# Altium schematic symbol library Schematics Diagrams.SchLib: 323 symbols (part 3 of 8)
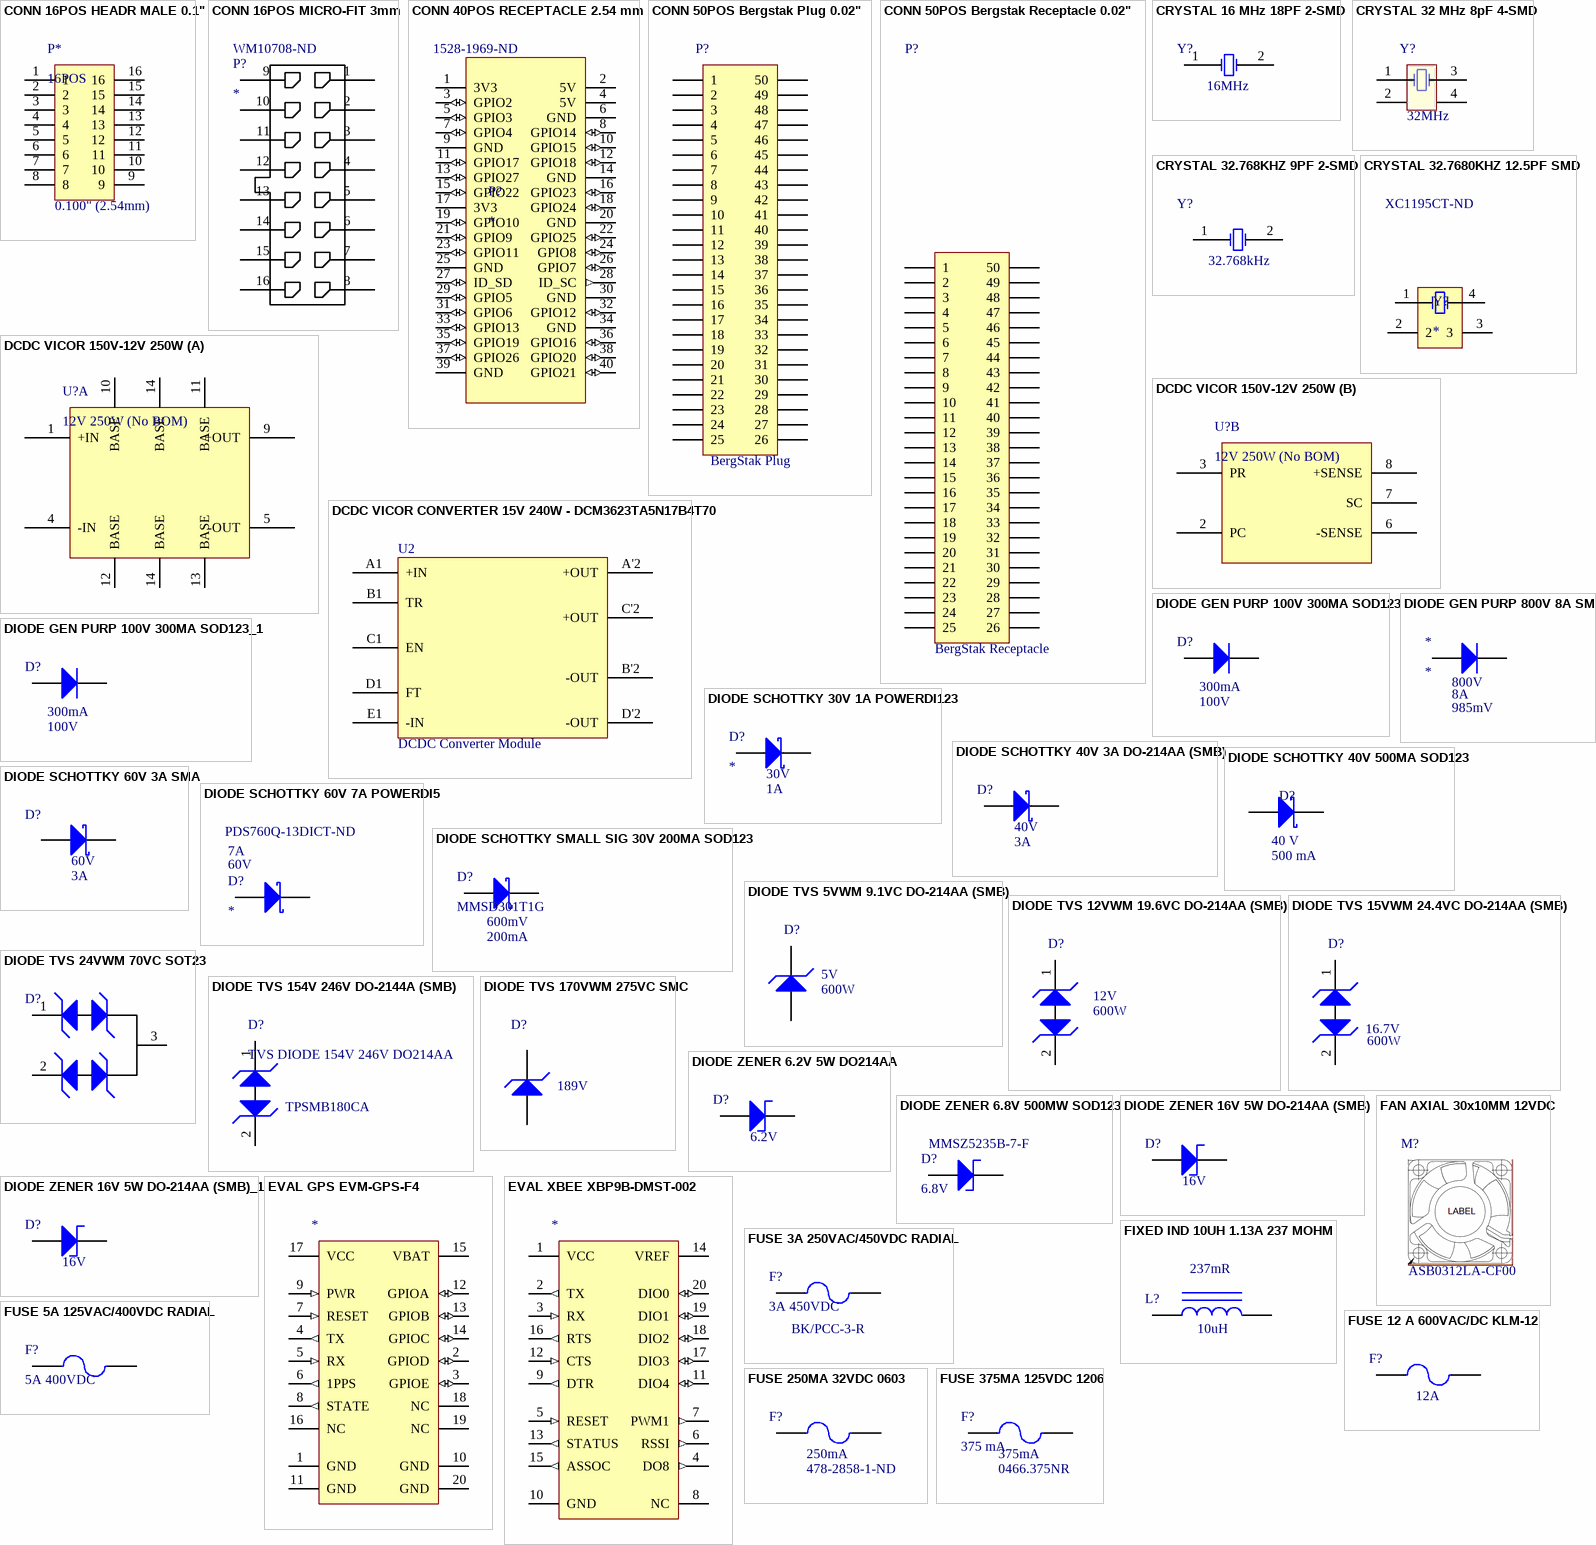
[diagram p12: symbols CONN 16POS HEADR MALE 0.1" to FUSE 375MA 125VDC 1206]

## CONN 16POS MICRO-FIT 3mm
designator P?  Supplier Part Number 1: WM10708-ND
Connector Header Through Hole 16 position 0.118"(3.00mm); Manufacturer: Molex; Manufacturer Part Number: 0430451627; Contact Resistance: 10mR; Number of Positions: 16; Number of Ports: 1; Connector Type: Male Pin; Pitch: 3mm; Row Spacing: 0.118inch; Supplier 1: Digi-Key; RoHS: Yes; Stock 1: 4654; Pricing 1: 1 = 3.26000, 10 = 3.12900, 25 = 2.86800, 50 = 2.73780, 100 = 2.60740, 250 = 2.28148, 792 = 2.02073, 1584 = 1.82518, 3168 = 1.75999 (USD); Mount: Through Hole; Color: Black; Contact Material: Brass; Contact Plating: Tin; Number of Terminals: 16; Housing Color: Black; Housing Material: Polymer; Min Operating Temperature: -40°C; Max Operating Temperature: 105°C; Package Quantity: 792; Number of Rows: 2; Fastening Type: Ramp; Packaging: Tray; Termination: Solder; Number of Contacts: 16; Orientation: Straight; Length: 28.15mm; Depth: 8.77mm; ComponentLink1URL: http://www.molex.com/pdm_docs/sd/430451627_sd.pdf; ComponentLink1Description: http://www.molex.com/pdm_docs/sd/430451627_sd.pdf; ComponentLink2URL: http://www.molex.com/webdocs/datasheets/pdf/en-us/0430451627_PCB_HEADERS.pdf; ComponentLink2Description: http://www.molex.com/webdocs/datasheets/pdf/en-us/0430451627_PCB_HEADERS.pdf
footprint CONN, 16POS MICRO-FIT 3MM
pins: 1, 2, 3, 4, 5, 6, 7, 8, 9, 10, 11, 12, 13, 14, 15, 16

## CONN 40POS RECEPTACLE 2.54 mm
designator P?  Supplier Part Number 1: 1528-1969-ND
GPIO HEADER FOR RASPBERRYPI A+/B; Manufacturer: Adafruit Industries; Manufacturer Part Number: 1992; Supplier 1: Digi-Key; Stock 1: 175; Pricing 1: 1=2.95 (USD); ComponentLink1Description: gpio header raspberry pi; ComponentLink1URL: https://www.digikey.ca/product-detail/en/adafruit-industries-llc/1992/1528-1969-ND/6827092
footprint CONN 40POS RECEPTACLE 2.54 MM (gpio header for raspberry pi)
pins: 1 3V3 (power), 2 5V (power), 3 GPIO2 (io), 4 5V (power), 5 GPIO3 (io), 6 GND (power), 7 GPIO4 (io), 8 GPIO14 (io), 9 GND (power), 10 GPIO15 (io), 11 GPIO17 (io), 12 GPIO18 (io), 13 GPIO27 (io), 14 GND (power), 15 GPIO22 (io), 16 GPIO23 (io), 17 3V3 (power), 18 GPIO24 (io), 19 GPIO10 (io), 20 GND (power), 21 GPIO9 (io), 22 GPIO25 (io), 23 GPIO11 (io), 24 GPIO8 (io), 25 GND (power), 26 GPIO7 (io), 27 ID_SD (io), 28 ID_SC (out), 29 GPIO5 (io), 30 GND (power), 31 GPIO6 (io), 32 GPIO12 (io), 33 GPIO13 (io), 34 GND (power), 35 GPIO19 (io), 36 GPIO16 (io), 37 GPIO26 (io), 38 GPIO20 (io), 39 GND (power), 40 GPIO21 (io)

## CONN 50POS Bergstak Plug 0.02"
designator P?  Series: BergStak Plug
50 Position Connector Plug, Outer Shroud Contacts Surface Mount Gold; Manufacturer 1: Amphenol FCI; Manufacturer Part Number 1: 10132797-055100LF; Number of Positions: 50; Mated Stacking Heights: 5mm; Pitch: 0.020" (0.50mm); Supplier 1: Digi-Key; Supplier Part Number 1: 609-5226-1-ND; Packaging: Cut Tape (CT); Part Status: Active; Connector Type: Plug, Outer Shroud Contacts; Number of Rows: 2; Mounting Type: Surface Mount; Contact Finish: Gold; Contact Finish Thickness: 1µin (0.025µm); Height Above Board: 0.169" (4.30mm); ComponentLink1URL: http://portal.fciconnect.com/Comergent//fci/drawing/10132797.pdf; ComponentLink1Description: http://portal.fciconnect.com/Comergent//fci/drawing/10132797.pdf
footprint CONN, Bergstak 50 Pos Plug (Bergstak 50 Position Plug)
pins: 1, 2, 3, 4, 5, 6, 7, 8, 9, 10, 11, 12, 13, 14, 15, 16, 17, 18, 19, 20, 21, 22, 23, 24, 25, 26, 27, 28, 29, 30, 31, 32, 33, 34, 35, 36, 37, 38, 39, 40, 41, 42, 43, 44, 45, 46, 47, 48, 49, 50

## CONN 50POS Bergstak Receptacle 0.02"
designator P?  Series: BergStak Receptacle
50 Position Connector Receptacle, Center Strip Contacts Surface Mount Gold; Manufacturer 1: Amphenol FCI; Manufacturer Part Number 1: 10132798-052100LF; Number of Positions: 50; Mated Stacking Heights: 5mm, 5.5mm, 6mm; Pitch: 0.020" (0.50mm); Supplier 1: Digi-Key; Supplier Part Number 1: 609-5227-1-ND; Packaging: Cut Tape (CT); Part Status: Active; Connector Type: Receptacle, Center Strip Contacts; Number of Rows: 2; Mounting Type: Surface Mount; Contact Finish: Gold; Contact Finish Thickness: 1µin (0.025µm); Height Above Board: 0.106" (2.70mm); ComponentLink1URL: http://portal.fciconnect.com/Comergent//fci/drawing/10132798.pdf; ComponentLink1Description: http://portal.fciconnect.com/Comergent//fci/drawing/10132798.pdf
footprint CONN, Bergstak 50 Pos Receptacle (Bergstak 50 Position Receptacle)
pins: 1, 2, 3, 4, 5, 6, 7, 8, 9, 10, 11, 12, 13, 14, 15, 16, 17, 18, 19, 20, 21, 22, 23, 24, 25, 26, 27, 28, 29, 30, 31, 32, 33, 34, 35, 36, 37, 38, 39, 40, 41, 42, 43, 44, 45, 46, 47, 48, 49, 50

## CRYSTAL 16 MHz 18PF 2-SMD
designator Y?  Frequency: 16MHz  (hidden comment: *)
16MHz ±20ppm Crystal 18pF 40 Ohms 2-SMD, No Lead; Manufacturer: Abracon LLC; Manufacturer Part Number: ABM3-16.000MHZ-D2Y-T; Frequency Stability: ±30ppm; Operating Mode: Fundamental; Supplier 1: Digi-Key; RoHS: RoHS Compliant; Category: Crystals, Oscillators, Resonators; Stock 1: 27142; Pricing 1: 1=1.02, 10=0.858, 50=0.7712, 100=0.6855, 500=0.6512 (CAD); Packaging: Cut Tape (CT); Part Status: Active; Type: MHz Crystal; Frequency Tolerance: ±20ppm; Load Capacitance: 18pF; Operating Temperature: -40°C ~ 85°C; Ratings: -; Mounting Type: Surface Mount; Package / Case: 2-SMD, No Lead; Size / Dimension: 0.197" L x 0.126" W (5.00mm x 3.20mm); Height - Seated (Max): 0.051" (1.30mm); ComponentLink1URL: https://abracon.com/Resonators/abm3.pdf; ComponentLink1Description: https://abracon.com/Resonators/abm3.pdf; Supplier Part Number 1: 535-10638-1-ND
footprint ABM3 CRYSTAL
pins: 1, 2

## CRYSTAL 32 MHz 8pF 4-SMD
designator Y?  Frequency: 32MHz
32MHz ±15ppm Crystal 8pF 50 Ohm -40°C ~ 85°C AEC-Q200 Surface Mount 4-SMD, No Lead; Manufacturer 1: AVX Corp/Kyocera Corp; Manufacturer Part Number 1: CX2520DB32000D0GPSC1; Frequency Stability: ±50ppm; ESR (Equivalent Series Resistance): 50 Ohm; Operating Mode: Fundamental; Supplier 1: Digi-Key; Supplier Part Number 1: 1253-1730-1-ND; Packaging: Cut Tape (CT); Part Status: Active; Type: MHz Crystal; Frequency Tolerance: ±15ppm; Operating Temperature: -40°C ~ 85°C; Ratings: AEC-Q200; Mounting Type: Surface Mount; Package / Case: 4-SMD, No Lead; Size / Dimension: 0.098" L x 0.079" W (2.50mm x 2.00mm); Height - Seated (Max): 0.022" (0.55mm); ComponentLink1URL: http://media.digikey.com/pdf/Data%20Sheets/AVX%20PDFs/CX2520DB_USY1M-H1-16428-00_Spec.pdf; ComponentLink1Description: http://media.digikey.com/pdf/Data%20Sheets/AVX%20PDFs/CX2520DB_USY1M-H1-16428-00_Spec.pdf; Load Capacitance: 8pF
footprint CX2520DB CRYSTAL
pins: 1 OSC1, 2, 3 OSC2, 4 3

## CRYSTAL 32.768KHZ 9PF 2-SMD
designator Y?  Frequency: 32.768kHz
32.768kHz ±20ppm Crystal 6pF 50 kOhm -40°C ~ 85°C Surface Mount 4-SOJ, 5.50mm pitch; Manufacturer 1: Abracon LLC; Manufacturer Part Number 1: ABS07AIG-32.768KHZ-9-1-T; Frequency Tolerance: ±10ppm; Load Capacitance: 9pF; ESR (Equivalent Series Resistance): 70 kOhm; Operating Mode: Fundamental; Supplier 1: Digi-Key; Supplier Part Number 1: 535-13353-1-ND; Packaging: Cut Tape (CT); Part Status: Active; Type: kHz Crystal (Tuning Fork); Frequency Stability: -; Operating Temperature: -40°C ~ 125°C; Ratings: AEC-Q200; Mounting Type: Surface Mount; Package / Case: 2-SMD, No Lead; Size / Dimension: 0.126" L x 0.059" W (3.20mm x 1.50mm); Height - Seated (Max): 0.035" (0.90mm); ComponentLink1URL: http://www.abracon.com/AIGcrystals/ABS07AIG.pdf; ComponentLink1Description: http://www.abracon.com/AIGcrystals/ABS07AIG.pdf
footprint ABS07AIG CRYSTAL
pins: 1, 2

## CRYSTAL 32.7680KHZ 12.5PF SMD
designator Y?  Supplier Part Number 1: XC1195CT-ND
32.768kHz ±20ppm Crystal 12.5pF 50 kOhms 4-SOJ, 5.50mm pitch; Manufacturer: ECS International; Manufacturer Part Number: ECS-.327-12.5-17X-TR; ESR (Equivalent Series Resistance): 50kR; Supplier 1: Digi-Key; Stock 1: 67622; Pricing 1: 1=0.56, 10=0.468, 50=0.4208, 100=0.374, 500=0.3553, 1000=0.2992 (USD); Mount: Surface Mount; Min Operating Temperature: -40°C; Max Operating Temperature: 85°C; Package Quantity: 1; Frequency: 32.768kHz; Frequency Tolerance: 20ppm; Load Capacitance: 12.5pF; Packaging: Tape and Reel; Tolerance: 20ppm; Termination: SMD/SMT; Length: 0.315inch; Height: 0.098inch; Width: 0.15inch; Lead Free: Lead Free; ComponentLink1URL: https://datasheet.ciiva.com/852/ecx-306x-852775.pdf; ComponentLink1Description: https://datasheet.ciiva.com/852/ecx-306x-852775.pdf; ComponentLink2URL: https://datasheet.ciiva.com/852/ecx-306x-852776.pdf; ComponentLink2Description: https://datasheet.ciiva.com/852/ecx-306x-852776.pdf; ComponentLink3URL: https://datasheet.ciiva.com/852/ecx-306x-852777.pdf; ComponentLink3Description: https://datasheet.ciiva.com/852/ecx-306x-852777.pdf
footprint 4-SOJ
pins: 1, 2, 3, 4

## DCDC VICOR 150V-12V 250W
designator U?, comment 12V 250W (No BOM)  (no BOM)
Isolated Module DC DC Converter 1 Output 12V 20.83A 100V - 200V Input; Manufacturer: Vicor Corporation; Manufacturer Part Number: V150B12C250BL; Number of Outputs: 1; Voltage - Isolation: 3kV (3000V); Efficiency: 88.1%; Supplier 1: Digi-Key; RoHS: RoHS non-compliant; Category: Power Supplies - Board Mount; Stock 1: 0; Pricing 1: 1=252.65 (CAD); Packaging: Bulk; Part Status: Active; Type: Isolated Module; Voltage - Input (Min): 100V; Voltage - Input (Max): 200V; Voltage - Output 1: 12V; Voltage - Output 2: -; Voltage - Output 3: -; Current - Output (Max): 20.83A; Applications: ITE (Commercial); Features: OVP, UVLO; Operating Temperature: -20°C ~ 100°C; Mounting Type: Through Hole; Package / Case: 9-DIP Module; Size / Dimension: 2.28" L x 2.20" W x 0.50" H (57.9mm x 55.9mm x 12.7mm); ComponentLink1URL: http://cdn.vicorpower.com/documents/datasheets/ds_150vin-mini-family.pdf; ComponentLink1Description: http://cdn.vicorpower.com/documents/datasheets/ds_150vin-mini-family.pdf; Supplier Part Number 1: 1102-1234-ND
footprint DCDC VICOR 150V-12V 250W
part A pins: 1 +IN, 4 -IN, 5 -OUT, 9 +OUT, 10 BASE, 11 BASE, 12 BASE, 13 BASE, 14 BASE, 14 BASE
part B pins: 2 PC, 3 PR, 6 -SENSE, 7 SC, 8 +SENSE

## DCDC VICOR CONVERTER 15V 240W - DCM3623TA5N17B4T70
designator U2  Type: DCDC Converter Module  (hidden comment: DCDC VICOR CONVERTER 15V 240W - DCM3623TA5N17B4T70)
DC DC CONVERTER 15V 240W; Manufacturer 1: Vicor Corporation; Number of Outputs: 1; Voltage - Input (Min): 154V; Voltage - Input (Max): 43V; Current - Output (Max): 16A; Efficiency: 92.1%; Supplier 1: Digi-Key; Supplier Part Number 1: 1470-2950-1-ND; Packaging: Cut Tape (CT); Part Status: Active; Voltage - Output 1: 15V; Voltage - Output 2: -; Voltage - Output 3: -; Operating Temperature: -40°C ~ 105°C; Mounting Type: Surface Mount; Package / Case: 9-DIP Module; Size / Dimension: 1.52" L x 0.90" W x 0.28" H (38.72mm x 22.8mm x 7.2mm); ComponentLink1URL: http://www.vicorpower.com/documents/datasheets/DCM3623xA5N17B4y7z_ds.pdf; ComponentLink1Description: http://www.vicorpower.com/documents/datasheets/DCM3623xA5N17B4y7z_ds.pdf; Power: 240W; Manufacturer Part Number 1: DCM3623TA5N17B4T70
footprint IC, DCDC converter DCM3623TA5N17B4T70
pins: A1 +IN, A'2 +OUT, B1 TR, B'2 -OUT, C1 EN, C'2 +OUT, D1 FT, D'2 -OUT, E1 -IN

## DIODE GEN PURP 100V 300MA SOD123
designator D?  Max Repetitive Reverse Voltage (Vrrm): 100V  Forward Current: 300mA  (hidden comment: *)
Diode Standard 100V 300mA (DC) Surface Mount SOD-123; Manufacturer: Diodes Zetex; Manufacturer Part Number: 1N4148WQ-7-F; Max Surge Current: 2A; Forward Voltage: 1.25V; Element Configuration: Single; Recovery Time: 4ns; Peak Reverse Current: 50uA; Max Power Dissipation: 400mW; Supplier 1: Digi-Key; Stock 1: 229; Pricing 1: 1=0.22, 10=0.196, 100=0.107, 500=0.0658, 1000=0.0449 (USD); Mount: Surface Mount; Case/Package: SOD-123-2; Number of Pins: 2; Weight: 0.000353oz; Contact Plating: Tin,Matte; Min Operating Temperature: -65°C; Max Operating Temperature: 150°C; Packaging: Tape and Reel; Peak Non-Repetitive Surge Current: 2A; Package Quantity: 3000; Reverse Recovery Time: 4ns; Lead Free: Lead Free; ComponentLink1URL: http://components.arrow.com/part/dataview/0323_07206809; ComponentLink1Description: http://components.arrow.com/part/dataview/0323_07206809; ComponentLink2URL: http://www.diodes.com/datasheets/ds30086.pdf; ComponentLink2Description: http://www.diodes.com/datasheets/ds30086.pdf; ComponentLink3URL: http://www.mouser.com/ds/2/115/ds30086-318161.pdf; ComponentLink3Description: http://www.mouser.com/ds/2/115/ds30086-318161.pdf; Supplier Part Number 1: 1N4148WQ-7-FDICT-ND
footprint DIODE GEN PURP 100V 300MA SOD123 (Diode Standard 100V 300mA (DC) Surface Mount SOD-123)
pins: 1 A, 2 K

## DIODE GEN PURP 100V 300MA SOD123_1
designator D?  Max Repetitive Reverse Voltage (Vrrm): 100V  Forward Current: 300mA  (hidden comment: *)
Diode Standard 100V 300mA (DC) Surface Mount SOD-123; Manufacturer: Diodes Zetex; Manufacturer Part Number: 1N4148WQ-7-F; Max Surge Current: 2A; Forward Voltage: 1.25V; Element Configuration: Single; Recovery Time: 4ns; Peak Reverse Current: 50uA; Max Power Dissipation: 400mW; Supplier 1: Digi-Key; Stock 1: 229; Pricing 1: 1=0.22, 10=0.196, 100=0.107, 500=0.0658, 1000=0.0449 (USD); Mount: Surface Mount; Case/Package: SOD-123-2; Number of Pins: 2; Weight: 0.000353oz; Contact Plating: Tin,Matte; Min Operating Temperature: -65°C; Max Operating Temperature: 150°C; Packaging: Tape and Reel; Peak Non-Repetitive Surge Current: 2A; Package Quantity: 3000; Reverse Recovery Time: 4ns; Lead Free: Lead Free; ComponentLink1URL: http://components.arrow.com/part/dataview/0323_07206809; ComponentLink1Description: http://components.arrow.com/part/dataview/0323_07206809; ComponentLink2URL: http://www.diodes.com/datasheets/ds30086.pdf; ComponentLink2Description: http://www.diodes.com/datasheets/ds30086.pdf; ComponentLink3URL: http://www.mouser.com/ds/2/115/ds30086-318161.pdf; ComponentLink3Description: http://www.mouser.com/ds/2/115/ds30086-318161.pdf; Supplier Part Number 1: 1N4148WQ-7-FDICT-ND
footprint DIODE GEN PURP 100V 300MA SOD123 (Diode Standard 100V 300mA (DC) Surface Mount SOD-123)
pins: 1 A, 2 K

## DIODE GEN PURP 800V 8A SMC
designator *  Forward Voltage: 985mV  Max Reverse Voltage (DC): 800V  Forward Current: 8A
Manufacturer: Diodes; Manufacturer Part Number: S8KC-13; Peak Reverse Current: 10uA; Max Surge Current: 200A; Element Configuration: Single; Supplier 1: Digi-Key; Stock 1: 38298; Pricing 1: 1=0.68, 10=0.598, 100=0.4586, 500=0.36256, 1000=0.29005 (USD); Mount: Surface Mount; Case/Package: SMC; Number of Pins: 2; Weight: 0.007408oz; Contact Plating: Tin,Matte; Min Operating Temperature: -65°C; Max Operating Temperature: 150°C; Packaging: Tape and Reel; Package Quantity: 3000; Reverse Voltage (DC): 800V; Average Rectified Current: 8A; Max Repetitive Reverse Voltage (Vrrm): 800V; Peak Non-Repetitive Surge Current: 200A; Max Forward Surge Current (Ifsm): 200A; Length: 7.11mm; Height: 2.42mm; Width: 6.22mm; Radiation Hardening: No; Lead Free: Lead Free; ComponentLink1URL: https://datasheet.ciiva.com/15144/getdatasheetpartid-61102-15144323.pdf; ComponentLink1Description: https://datasheet.ciiva.com/15144/getdatasheetpartid-61102-15144323.pdf; ComponentLink2URL: https://datasheet.ciiva.com/16388/ds31117-16388346.pdf; ComponentLink2Description: https://datasheet.ciiva.com/16388/ds31117-16388346.pdf; ComponentLink3URL: https://datasheet.ciiva.com/914/ds31117-914779.pdf; ComponentLink3Description: https://datasheet.ciiva.com/914/ds31117-914779.pdf; ComponentLink4URL: https://datasheet.ciiva.com/4453/ds31117-63855-4453947.pdf; ComponentLink4Description: https://datasheet.ciiva.com/4453/ds31117-63855-4453947.pdf; Supplier Part Number 1: S8KCDICT-ND
footprint DIODE, SMC
pins: 1 K, 2 A

## DIODE SCHOTTKY 30V 1A POWERDI123
designator D?  Current - Average Rectified (Io): 1A  Voltage - DC Reverse (Vr) (Max): 30V
Diode Schottky 30V 1A Surface Mount PowerDI™ 123; Manufacturer: Diodes Incorporated; Manufacturer Part Number: DFLS130L-7; Speed: Fast Recovery =< 500ns, > 200mA (Io); Current - Reverse Leakage @ Vr: 1mA @ 30V; Capacitance @ Vr, F: 76pF @ 10V, 1MHz; Voltage - Forward (Vf) (Max) @ If: 310mV @ 1A; Supplier 1: Digi-Key; RoHS: RoHS Compliant; Category: Discrete Semiconductor Products; Stock 1: 68200; Packaging: Cut Tape (CT); Part Status: Active; Diode Type: Schottky; Mounting Type: Surface Mount; Package / Case: POWERDI®123; Supplier Device Package: PowerDI™ 123; Operating Temperature - Junction: -40°C ~ 125°C; ComponentLink1URL: https://www.diodes.com/assets/Datasheets/ds30492.pdf; ComponentLink1Description: https://www.diodes.com/assets/Datasheets/ds30492.pdf; Supplier Part Number 1: DFLS130LDICT-ND; Pricing 1: 1=0.7, 10=0.599, 100=0.447, 500=0.35126, 1000=0.27142 (CAD)
footprint DIODE SCHOTTKY 30V 1A POWERDI123 (Diodes Incorporated DFLS130L-7)
pins: 1 A, 2 K

## DIODE SCHOTTKY 40V 3A DO-214AA (SMB)
designator D?  Voltage - DC Reverse (Vr) (Max): 40V  Current - Average Rectified (Io): 3A
Diode Schottky 40V 3A Surface Mount DO-214AA (SMB); Manufacturer 1: Comchip Technology; Manufacturer Part Number 1: CDBB340-HF; Voltage - Forward (Vf) (Max) @ If: 500mV @ 3A; Speed: Fast Recovery =< 500ns, > 200mA (Io); Current - Reverse Leakage @ Vr: 500µA @ 40V; Capacitance @ Vr, F: 250pF @ 4V, 1MHz; Supplier 1: Digi-Key; Supplier Part Number 1: 641-1722-1-ND; Packaging: Cut Tape (CT); Part Status: Active; Diode Type: Schottky; Mounting Type: Surface Mount; Package / Case: DO-214AA, SMB; Supplier Device Package: DO-214AA (SMB); Operating Temperature - Junction: -40°C ~ 70°C; ComponentLink1URL: http://www.comchiptech.com/cms/UserFiles/CDBB340-HF%20Thru849517.%20CDBB3100-HF%20RevE.pdf; ComponentLink1Description: http://www.comchiptech.com/cms/UserFiles/CDBB340-HF%20Thru849517.%20CDBB3100-HF%20RevE.pdf
footprint DO-214AA Diode (Zener Diode 16V 5W SMBJ5353B-TP)
pins: 1 A, 2 K

## DIODE SCHOTTKY 40V 500MA SOD123
designator D?  (value not drawn)
Diode Schottky 40V 500mA Surface Mount SOD-123; Manufacturer: ON Semiconductor / Fairchild; Manufacturer Part Number: MBR0540; Peak Reverse Current: 20uA; Max Surge Current: 5.5A; Forward Voltage: 620mV; Power Dissipation: 400mW; Element Configuration: Single; Polarity: Standard; Current Rating: 500A; ComponentLink1Description: datasheet; ComponentLink1URL: https://www.onsemi.cn/PowerSolutions/document/MBR0540-D.pdf; ComponentLink2Description: supplier link; ComponentLink2URL: https://www.onsemi.com/PowerSolutions/product.do?id=MBR0540; Supplier 1: Digi-Key; Stock 1: 414620; Pricing 1: 1=0.2, 10=0.166, 100=0.0881, 500=0.05794, 1000=0.0394 (USD); Mount: Surface Mount; Number of Pins: 2; Weight: 0.03g; Contact Plating: Tin,Matte; Min Operating Temperature: -65°C; Max Operating Temperature: 125°C; Forward Current: 500mA; Package Quantity: 3000; Packaging: Tape and Reel; Average Rectified Current: 500mA; Max Reverse Leakage Current: 20uA; Max Repetitive Reverse Voltage (Vrrm): 40V; Peak Non-Repetitive Surge Current: 5.5A; Max Forward Surge Current (Ifsm): 5.5A; Voltage Rating (DC): 40V; Output Current: 500mA; Max Reverse Voltage (DC): 40V; Length: 2.7mm; Height: 1.03mm; Width: 1.6mm; Radiation Hardening: No; REACH SVHC: No SVHC; Lead Free: Lead Free; ComponentLink3URL: https://www.fairchildsemi.com/datasheets/MB/MBR0540.pdf?src-supplier=Digi-Key; ComponentLink3Description: https://www.fairchildsemi.com/datasheets/MB/MBR0540.pdf?src-supplier=Digi-Key; ComponentLink4URL: https://www.onsemi.cn/PowerSolutions/document/MBR0540-D.pdf?src-supplier=Digi-Key; ComponentLink4Description: https://www.onsemi.cn/PowerSolutions/document/MBR0540-D.pdf?src-supplier=Digi-Key; ComponentLink5URL: http://www.jameco.com/Jameco/Products/ProdDS/975060.pdf?src-supplier=Jameco; ComponentLink5Description: http://www.jameco.com/Jameco/Products/ProdDS/975060.pdf?src-supplier=Jameco; ComponentLink6URL: http://www.mouser.com/ds/2/149/MBR0540-90522.pdf?src-supplier=Mouser; ComponentLink6Description: http://www.mouser.com/ds/2/149/MBR0540-90522.pdf?src-supplier=Mouser; ComponentLink7URL: https://www.verical.com/server-webapp/html/getDatasheet?partID=110131&src-supplier=Verical; ComponentLink7Description: https://www.verical.com/server-webapp/html/getDatasheet?partID=110131&src-supplier=Verical; ComponentLink8URL: http://www.farnell.com/datasheets/2041480.pdf?src-supplier=Element14; ComponentLink8Description: http://www.farnell.com/datasheets/2041480.pdf?src-supplier=Element14; ComponentLink9URL: https://www.fairchildsemi.com/datasheets/MB/MBR0540.pdf?src-supplier=Avnet; ComponentLink9Description: https://www.fairchildsemi.com/datasheets/MB/MBR0540.pdf?src-supplier=Avnet; Supplier Part Number 1: MBR0540DKR-ND
footprint SOD123 (SODFL, 2-Leads, Body 1.60x3.75mm, IPC Medium Density)
pins: 1 A, 2 K
text: 40 V; 500 mA

## DIODE SCHOTTKY 60V 3A SMA
designator D?  Voltage - DC Reverse (Vr) (Max): 60V  Current - Average Rectified (Io): 3A
Diode Schottky 60V 3A Surface Mount SMA; Manufacturer 1: Diodes Incorporated; Manufacturer Part Number 1: B360A-13-F; Voltage - Forward (Vf) (Max) @ If: 700mV @ 3A; Speed: Fast Recovery =< 500ns, > 200mA (Io); Current - Reverse Leakage @ Vr: 500µA @ 60V; Capacitance @ Vr, F: 200pF @ 4V, 1MHz; Supplier 1: Digi-Key; Supplier Part Number 1: B360A-FDICT-ND; Packaging: Cut Tape (CT); Part Status: Active; Diode Type: Schottky; Mounting Type: Surface Mount; Package / Case: DO-214AC, SMA; Supplier Device Package: SMA; Operating Temperature - Junction: -55°C ~ 150°C; ComponentLink1URL: https://www.diodes.com/assets/Datasheets/ds30891.pdf; ComponentLink1Description: https://www.diodes.com/assets/Datasheets/ds30891.pdf
footprint Diode, SMA
pins: 1, 2

## DIODE SCHOTTKY 60V 7A POWERDI5
designator D?  Current - Average Rectified (Io): 7A  Supplier Part Number 2: PDS760Q-13DICT-ND  Voltage: 60V
Diode Schottky 60V 7A Surface Mount PowerDI™ 5; Manufacturer: Diodes Incorporated; Manufacturer Part Number: PDS760Q-13; Speed: Fast Recovery =< 500ns, > 200mA (Io); Supplier 1: Digi-Key; RoHS: RoHS Compliant; Category: Discrete Semiconductor Products; Stock 1: 35000; Pricing 1: 5000=0.48794, 10000=0.4696 (CAD); Packaging: Tape & Reel (TR); Part Status: Active; Diode Type: Schottky; Capacitance @ Vr, F: -; Mounting Type: Surface Mount; Package / Case: PowerDI™ 5; Supplier Device Package: PowerDI™ 5; Operating Temperature - Junction: -65°C ~ 150°C; ComponentLink1URL: https://www.diodes.com/assets/Datasheets/PDS760Q.pdf; ComponentLink1Description: https://www.diodes.com/assets/Datasheets/PDS760Q.pdf; Supplier 2: Digi-Key; Stock 2: 36638; Pricing 2: 1=1.24, 10=1.115, 100=0.8692, 500=0.71798, 1000=0.56682 (CAD)
footprint DIODE SCHOTTKY 60V 7A POWERDI5 (Diode Schottky 60V 7A Surface Mount PowerDI™ 5)
pins: 1, 2

## DIODE SCHOTTKY SMALL SIG 30V 200MA SOD123
designator D?, comment MMSD301T1G  Forward Voltage: 600mV  Forward Current: 200mA
Diode Schottky 30V 200mA (DC) Surface Mount SOD-123; Manufacturer 1: ON Semiconductor; Description 1: DIODE SCHOTTKY 30V 200MA SOD123; Polarity: Standard; Current Rating: 100mA; Peak Reverse Current: 200nA; Max Forward Surge Current (Ifsm): 1A; Power Dissipation: 225mW; Element Configuration: Single; Supplier 1: Digi-Key; Supplier Part Number 1: MMSD301T1GOSCT-ND; Manufacturer Part Number 1: MMSD301T1G; Stock 1: 23461; Pricing 1: 1=0.37, 10=0.301, 100=0.1597, 500=0.1051, 1000=0.0714 (USD); Case/Package: SOD-123-2; Number of Pins: 2; Contact Plating: Tin,Matte; Min Operating Temperature: -55°C; Max Operating Temperature: 125°C; Packaging: Tape and Reel; Voltage Rating (DC): 30V; Output Current: 200mA; Package Quantity: 3000; Max Reverse Leakage Current: 200nA; Reverse Voltage (DC): 30V; Average Rectified Current: 200mA; Max Repetitive Reverse Voltage (Vrrm): 30V; Termination: SMD/SMT; Max Reverse Voltage (DC): 30V; Length: 2.84mm; Height: 1.25mm; Width: 1.8mm; Radiation Hardening: No; REACH SVHC: No SVHC; Lead Free: Lead Free; ComponentLink1URL: https://datasheet.ciiva.com/927/mmsd301t1-d-927472.pdf; ComponentLink1Description: https://datasheet.ciiva.com/927/mmsd301t1-d-927472.pdf; ComponentLink2URL: https://datasheet.ciiva.com/5763/85966-5763040.pdf; ComponentLink2Description: https://datasheet.ciiva.com/5763/85966-5763040.pdf; ComponentLink3URL: https://datasheet.ciiva.com/915/mmsd301t1-d-915476.pdf; ComponentLink3Description: https://datasheet.ciiva.com/915/mmsd301t1-d-915476.pdf; ComponentLink4URL: https://datasheet.ciiva.com/915/mmsd301t1-d-915477.pdf; ComponentLink4Description: https://datasheet.ciiva.com/915/mmsd301t1-d-915477.pdf; ComponentLink5URL: https://datasheet.ciiva.com/915/mmsd301t1-d-915478.pdf; ComponentLink5Description: https://datasheet.ciiva.com/915/mmsd301t1-d-915478.pdf; ComponentLink6URL: https://datasheet.ciiva.com/25947/mmsd301t1-d-25947942.pdf; ComponentLink6Description: https://datasheet.ciiva.com/25947/mmsd301t1-d-25947942.pdf; ComponentLink7URL: https://datasheet.ciiva.com/8299/mmsd301t1-d-8299881.pdf; ComponentLink7Description: https://datasheet.ciiva.com/8299/mmsd301t1-d-8299881.pdf; ComponentLink8URL: https://datasheet.ciiva.com/16215/mmsd301t1-d-16215580.pdf; ComponentLink8Description: https://datasheet.ciiva.com/16215/mmsd301t1-d-16215580.pdf
footprint DIODE SOD123
pins: 1, 2

## DIODE TVS 5VWM 9.1VC DO-214AA (SMB)
designator D?  Voltage - Reverse Standoff (Typ): 5V  Power - Peak Pulse: 600W  (hidden comment: *)
TVS DIODE 5V 9.1V DO214AA; Manufacturer: Vishay Semiconductor Diodes Division; Manufacturer Part Number: SMBJ5.0D-M3/H; Type: Zener; Voltage - Breakdown (Min): 6.5V; Current - Peak Pulse (10/1000µs): 65.9A; Power Line Protection: No; Supplier 1: Digi-Key; RoHS: RoHS Compliant; Category: Circuit Protection; Stock 1: 6900; Pricing 1: 1=0.51, 10=0.416, 25=0.3808, 100=0.2833, 250=0.25668 (CAD); Packaging: Cut Tape (CT); Part Status: Active; Voltage - Clamping (Max) @ Ipp: 9.1V; Applications: General Purpose; Capacitance @ Frequency: -; Operating Temperature: -55°C ~ 150°C (TJ); Mounting Type: Surface Mount; Package / Case: DO-214AA, SMB; Supplier Device Package: DO-214AA (SMBJ); ComponentLink1URL: http://www.vishay.com/docs/87606/87606.pdf; ComponentLink1Description: http://www.vishay.com/docs/87606/87606.pdf; Supplier Part Number 1: SMBJ5.0D-M3/HGICT-ND
footprint DO-214AA Diode (Zener Diode 16V 5W SMBJ5353B-TP)
pins: 1, 2

## DIODE TVS 12VWM 19.6VC DO-214AA (SMB)
designator D?  Voltage - Reverse Standoff (Typ): 12V  Power - Peak Pulse: 600W  (hidden comment: *)
TVS DIODE 12V 19.6V DO214AA; Manufacturer: Vishay Semiconductor Diodes Division; Manufacturer Part Number: SMBJ12CD-M3/H; Type: Zener; Voltage - Breakdown (Min): 13.5V; Current - Peak Pulse (10/1000µs): 30.6A; Power Line Protection: No; Supplier 1: Digi-Key; RoHS: RoHS Compliant; Category: Circuit Protection; Stock 1: 4469; Pricing 1: 1=0.69, 10=0.565, 25=0.516, 100=0.3841, 250=0.34808 (CAD); Packaging: Cut Tape (CT); Part Status: Active; Voltage - Clamping (Max) @ Ipp: 19.6V; Applications: General Purpose; Capacitance @ Frequency: -; Operating Temperature: -55°C ~ 150°C (TJ); Mounting Type: Surface Mount; Package / Case: DO-214AA, SMB; Supplier Device Package: DO-214AA (SMBJ); ComponentLink1URL: http://www.vishay.com/docs/87606/87606.pdf; ComponentLink1Description: http://www.vishay.com/docs/87606/87606.pdf; Supplier Part Number 1: SMBJ12CD-M3/HGICT-ND
footprint DO-214AA Diode (Zener Diode 16V 5W SMBJ5353B-TP)
pins: 1 Cathode1, 2 Cathode2

## DIODE TVS 15VWM 24.4VC DO-214AA (SMB)
designator D?  Voltage - Breakdown (Min): 16.7V  Power - Peak Pulse: 600W  (hidden comment: *)
TVS DIODE 15VWM 24.4VC SMB; Manufacturer 1: Fairchild/ON Semiconductor; Manufacturer Part Number 1: SMBJ15CA; Type: Zener; Voltage - Reverse Standoff (Typ): 15V; Voltage - Clamping (Max) @ Ipp: 24.4V; Current - Peak Pulse (10/1000µs): 24.6A; Power Line Protection: No; Supplier 1: Digi-Key; Supplier Part Number 1: SMBJ15CAFSCT-ND; RoHS: RoHS Compliant; Description 1: TVS DIODE 15VWM 24.4VC SMB; Category: Circuit Protection; Stock 1: 24965; Pricing 1: 1=0.54, 10=0.444, 100=0.3027, 500=0.22704, 1000=0.17028 (CAD); Packaging: Cut Tape (CT); Part Status: Active; Applications: General Purpose; Capacitance @ Frequency: -; Operating Temperature: -55°C ~ 150°C (TJ); Mounting Type: Surface Mount; Package / Case: DO-214AA, SMB; Supplier Device Package: DO-214AA (SMB); ComponentLink1URL: https://www.fairchildsemi.com/datasheets/SM/SMBJ10CA.pdf; ComponentLink1Description: https://www.fairchildsemi.com/datasheets/SM/SMBJ10CA.pdf
footprint DO-214AA Diode (Zener Diode 16V 5W SMBJ5353B-TP)
pins: 1 Cathode1, 2 Cathode2

## DIODE TVS 24VWM 70VC SOT23
designator D?
TVS DIODE 24VWM 70VC SOT23; Manufacturer 1: Nexperia USA Inc.; Manufacturer Part Number 1: PESD1CAN,215; Type: Zener; Voltage - Breakdown (Min): 25.4V; Voltage - Clamping (Max) @ Ipp: 70V; Current - Peak Pulse (10/1000µs): 3A (8/20µs); Power - Peak Pulse: 200W; Power Line Protection: No; Capacitance @ Frequency: 11pF @ 1MHz; Supplier 1: Digi-Key; Supplier Part Number 1: 1727-3817-1-ND; Packaging: Cut Tape (CT); Part Status: Active; Operating Temperature: -65°C ~ 150°C (TA); Mounting Type: Surface Mount; Package / Case: TO-236-3, SC-59, SOT-23-3; Supplier Device Package: SOT-23 (TO-236AB); ComponentLink1URL: http://assets.nexperia.com/documents/data-sheet/PESD1CAN.pdf; ComponentLink1Description: http://assets.nexperia.com/documents/data-sheet/PESD1CAN.pdf
footprint MOSFET P-CH 30V 3.8A SOT-23 (SOT23, 3-Leads, Body 2.85x2.40mm, Pitch 0.90mm, IPC Medium Density)
pins: 1 Cathode1, 2 Cathode2, 3 Common_Cathode (power)

## DIODE TVS 154V 246V DO-2144A (SMB)
designator D?, comment TVS DIODE 154V 246V DO214AA  Manufacturer Part Number: TPSMB180CA
Manufacturer: Littelfuse; Supplier 1: Digi-Key; Stock 1: 2900; Pricing 1: 1=0.84, 10=0.734, 25=0.6504, 100=0.5664, 250=0.493, 500=0.41958, 1000=0.33566 (USD); Supplier Part Number 1: F10356CT-ND
footprint DIODE TVS TPSMB 600W DO-214AA SMB (Littlefuse TPSMB)
pins: 1 Cathode1, 2 Cathode2

## DIODE TVS 170VWM 275VC SMC
designator D?  Voltage - DC Reverse (Vr) (Max): 189V
TVS DIODE 170VWM 275VC SMC; Manufacturer 1: Diodes Incorporated; Manufacturer Part Number 1: B360A-13-F; Diode Type: Schottky; Voltage - Forward (Vf) (Max) @ If: 700mV @ 3A; Speed: Fast Recovery =< 500ns, > 200mA (Io); Current - Reverse Leakage @ Vr: 500µA @ 60V; Capacitance @ Vr, F: 200pF @ 4V, 1MHz; Type: Zener; Voltage - Reverse Standoff (Typ): 170V; Voltage - Clamping (Max) @ Ipp: 275V; Current - Peak Pulse (10/1000µs): 5.5A; Power - Peak Pulse: 1500W (1.5kW); Power Line Protection: No; Supplier 1: Digi-Key; Supplier Part Number 1: B360A-FDICT-ND; Packaging: Cut Tape (CT); Part Status: Active; Mounting Type: Surface Mount; Package / Case: DO-214AC, SMA; Supplier Device Package: SMA; Operating Temperature - Junction: -55°C ~ 150°C; ComponentLink1URL: https://www.diodes.com/assets/Datasheets/ds30891.pdf; ComponentLink1Description: https://www.diodes.com/assets/Datasheets/ds30891.pdf; Supplier 2: Digi-Key; Supplier Part Number 2: SMCJ170A-FDICT-ND; Manufacturer 2: Diodes Incorporated; Manufacturer Part Number 2: SMCJ170A-13-F; RoHS: RoHS Compliant; Description 2: TVS DIODE 170VWM 275VC SMC; Category: Circuit Protection; Stock 2: 8020; Pricing 2: 1=0.97, 10=0.827, 100=0.6174, 500=0.48508, 1000=0.37484 (CAD); Voltage - Breakdown (Min): 189V; Applications: General Purpose; Capacitance @ Frequency: -; Operating Temperature: -55°C ~ 150°C (TJ); ComponentLink2URL: https://www.diodes.com/assets/Datasheets/ds19003.pdf; ComponentLink2Description: https://www.diodes.com/assets/Datasheets/ds19003.pdf
footprint DIODE, SMC
pins: 1, 2

## DIODE ZENER 6.2V 5W DO214AA
designator D?  Voltage - Zener (Nom): 6.2V
Zener Diode 6.2V 5W ±5% Surface Mount DO-214AA (SMB); Manufacturer 1: Micro Commercial Co; Manufacturer Part Number 1: SMBJ5341B-TP; Current - Reverse Leakage @ Vr: 1µA @ 3V; Voltage - Forward (Vf) (Max) @ If: 1.2V @ 1A; Supplier 1: Digi-Key; Supplier Part Number 1: SMBJ5341B-TPMSCT-ND; Packaging: Cut Tape (CT); Part Status: Active; Operating Temperature: -55°C ~ 150°C; Mounting Type: Surface Mount; Package / Case: DO-214AA, SMB; Supplier Device Package: DO-214AA (SMB); ComponentLink1URL: http://www.mccsemi.com/up_pdf/SMBJ5338B-SMBJ5388B(SMB).pdf; ComponentLink1Description: http://www.mccsemi.com/up_pdf/SMBJ5338B-SMBJ5388B(SMB).pdf; Tolerance: ±5%
footprint DO-214AA Diode (Zener Diode 16V 5W SMBJ5353B-TP)
pins: 1 A, 2 K

## DIODE ZENER 6.8V 500MW SOD123
designator D?, comment 6.8V  Manufacturer Part Number: MMSZ5235B-7-F
Zener Diode 6.8V 500mW ±5% Surface Mount SOD-123; Manufacturer: Diodes Incorporated; Supplier 1: Digi-Key; RoHS: RoHS Compliant; Category: Discrete Semiconductor Products; Stock 1: 24231; Pricing 1: 1=0.35, 10=0.286, 100=0.1513, 500=0.09956, 1000=0.06769 (CAD); Packaging: Cut Tape (CT); Part Status: Active; Tolerance: ±5%; Operating Temperature: -65°C ~ 150°C; Mounting Type: Surface Mount; Package / Case: SOD-123; Supplier Device Package: SOD-123; Base Part Number: MMSZ5235B; ComponentLink1URL: https://www.diodes.com/assets/Datasheets/ds18010.pdf; ComponentLink1Description: https://www.diodes.com/assets/Datasheets/ds18010.pdf; Supplier Part Number 1: MMSZ5235B-FDICT-ND
footprint DIODE SOD123
pins: 1 K, 2 A

## DIODE ZENER 16V 5W DO-214AA (SMB)
designator D?  Voltage - Zener (Nom): 16V
Zener Diode 16V 5W ±5% Surface Mount DO-214AA (SMB); Manufacture: Micro Commercial Co; Manufacture Part Number: SMBJ5353B-TP; Impedence (Max): 2.5 Ohm; Voltage - Forward: 1.2V @ 1A; Power (Max): 5W; Supplier 1: Digi-Key; Supplier Part Number 1: SMBJ5353B-TPMSCT-ND
footprint DO-214AA Diode (Zener Diode 16V 5W SMBJ5353B-TP)
pins: 1 A, 2 K

## DIODE ZENER 16V 5W DO-214AA (SMB)_1
designator D?  Voltage - Zener (Nom): 16V
Zener Diode 16V 5W ±5% Surface Mount DO-214AA (SMB); Manufacture: Micro Commercial Co; Manufacture Part Number: SMBJ5353B-TP; Impedence (Max): 2.5 Ohm; Voltage - Forward: 1.2V @ 1A; Power (Max): 5W; Supplier 1: Digi-Key; Supplier Part Number 1: SMBJ5353B-TPMSCT-ND
footprint DO-214AA Diode (Zener Diode 16V 5W SMBJ5353B-TP)
pins: 1 A, 2 K

## EVAL GPS EVM-GPS-F4
designator *
BOARD EVAL FOR RXM-GPS-F4; Manufacturer 1: Linx Technologies Inc.; Manufacturer Part Number 1: EVM-GPS-F4; Frequency: 1575.42MHz; Supplier 1: Digi-Key; Supplier Part Number 1: EVM-GPS-F4-ND; Part Status: Active; Type: GPS; For Use With/Related Products: RXM-GPS-F4; Supplied Contents: Board; ComponentLink1URL: https://www.linxtechnologies.com/resources/data-guides/man-evm-gps-f4.pdf; ComponentLink1Description: https://www.linxtechnologies.com/resources/data-guides/man-evm-gps-f4.pdf
pins: 1 GND (power), 2 GPIOD (io), 3 GPIOE (io), 4 TX (out), 5 RX (in), 6 1PPS (out), 7 RESET (in), 8 STATE (out), 9 PWR (in), 10 GND (power), 11 GND (power), 12 GPIOA (io), 13 GPIOB (io), 14 GPIOC (io), 15 VBAT (power), 16 NC, 17 VCC (power), 18 NC, 19 NC, 20 GND (power)

## EVAL XBEE XBP9B-DMST-002
designator *
RF TXRX MODULE ISM<1GHZ RP-SMA; Manufacturer 1: Digi International; Manufacturer Part Number 1: XBP9B-DMST-002; RF Family/Standard: General ISM < 1GHz; Modulation: FHSS; Frequency: 900MHz; Data Rate: 200kbps; Power - Output: 24dBm; Sensitivity: -110dBm; Serial Interfaces: SPI, UART; Antenna Type: Not Included, RP-SMA; Memory Size: 32kB Flash, 2kB RAM; Voltage - Supply: 2.4 V ~ 3.6 V; Current - Receiving: 44mA; Current - Transmitting: 229mA; Supplier 1: Digi-Key; Supplier Part Number 1: 602-1299-ND; Packaging: Bulk; Part Status: Active; Protocol: -; Mounting Type: Through Hole; Operating Temperature: -40°C ~ 85°C; Package / Case: Module; ComponentLink1URL: https://www.digi.com/pdf/ds_xbeepro900hp.pdf; ComponentLink1Description: https://www.digi.com/pdf/ds_xbeepro900hp.pdf
pins: 1 VCC (power), 2 TX (out), 3 RX (in), 4 DO8 (out) "Not Supported", 5 RESET (in), 6 RSSI (out) "RX Signal Strength Indicator", 7 PWM1 (out), 8 NC, 9 DTR (out), 10 GND, 11 DIO4 (io), 12 CTS (in), 13 STATUS (out), 14 VREF (power), 15 ASSOC (out) "Associated Indicator", 16 RTS (out), 17 DIO3 (io), 18 DIO2 (io), 19 DIO1 (io), 20 DIO0 (io)

## FAN AXIAL 30x10MM 12VDC
designator M?  Manufacturer Part Number: ASB0312LA-CF00  (hidden comment: *)
FAN AXIAL 30X10MM 12VDC WIRE; Manufacturer: Delta Design; Current Rating: 50mA; Airflow: 3.2CFM; Noise: 21dBA; Max Power Dissipation: 600mW; RPM: 8000RPM; Bearing Type: Sleeve; Supplier 1: Digi-Key; Supplier Part Number 1: 603-1728-ND; RoHS: Yes; Stock 1: 2468; Case/Package: Axial; Weight: 0.016lb; Package Quantity: 1440; Termination: 3 Wire Leads; Width: 10mm; ComponentLink1URL: http://www.delta-fan.com/Download/Spec/ASB0312LA-CF00.pdf; ComponentLink1Description: http://www.delta-fan.com/Download/Spec/ASB0312LA-CF00.pdf
footprint FAN AXIAL 30x10MM 12VDC

## FIXED IND 10UH 1.13A 237 MOHM
designator L?  DC Resistance (DCR): 237mR  Inductance: 10uH  (hidden comment: *)
10µH Shielded Wirewound Inductor 1.13A 237mOhm Max Nonstandard; Manufacturer: TDK; Manufacturer Part Number: VLCF5020T-100M1R1-1; Core Material: Ferrite; Inductance Tolerance: 20%; Test Frequency: 100kHz; RMS Current (Irms): 1.5A; Supplier 1: Digi-Key; Stock 1: 12500; Pricing 1: 500=0.441, 1000=0.357, 2500=0.336, 5000=0.3255, 12500=0.315, 25000=0.3045 (USD); Mount: Surface Mount; Case/Package: 2020; Number of Pins: 2; Min Operating Temperature: -40°C; Max Operating Temperature: 105°C; Packaging: Tape and Reel; Tolerance: 20%; Package Quantity: 500; Current Rating: 1.13A; Saturation Current: 1.13A; Shielding: Shielded; Composition: Wirewound; Max DC Current: 1.13A; Termination: SMD/SMT; DC Current: 1.13A; Military Standard: Not; Length: 0.197inch; Height: 2mm; Width: 0.197inch; Height - Seated (Max): 0.079inch; Depth: 5.2mm; Radiation Hardening: No; REACH SVHC: No SVHC; Lead Free: Lead Free; ComponentLink1URL: http://www.onlinecomponents.com/productFiles/mf-TDK/e531_vlcf5020_1.pdf?src-supplier=Onlinecomponents.com; ComponentLink1Description: http://www.onlinecomponents.com/productFiles/mf-TDK/e531_vlcf5020_1.pdf?src-supplier=Onlinecomponents.com; ComponentLink2URL: http://www.mouser.com/ds/2/400/e531_vlcf-18500.pdf?src-supplier=Mouser; ComponentLink2Description: http://www.mouser.com/ds/2/400/e531_vlcf-18500.pdf?src-supplier=Mouser; ComponentLink3URL: http://www.farnell.com/datasheets/516785.pdf?src-supplier=Element14; ComponentLink3Description: http://www.farnell.com/datasheets/516785.pdf?src-supplier=Element14; ComponentLink4URL: http://uk.rs-online.com/webdocs/1538/0900766b81538dbe.pdf?src-supplier=RSComponents; ComponentLink4Description: http://uk.rs-online.com/webdocs/1538/0900766b81538dbe.pdf?src-supplier=RSComponents; ComponentLink5URL: https://www.verical.com/server-webapp/html/getDatasheet?partID=107508&src-supplier=Verical; ComponentLink5Description: https://www.verical.com/server-webapp/html/getDatasheet?partID=107508&src-supplier=Verical; Supplier Part Number 1: 445-3209-2-ND
footprint INDP5050X20N (Precision Wire Wound Inductor, 2-Leads, Body 5.00x5.00mm, IPC Medium Density)
pins: 1, 2

## FUSE 3A 250VAC/450VDC RADIAL
designator F?, comment 3A 450VDC  Manufacturer Part Number: BK/PCC-3-R
FUSE BOARD MNT 3A 250VAC/450VDC; Manufacturer: Eaton; Approvals: CSA,UL; Fuse Type: Board Mount (Cartridge Style Excluded); Voltage Rating: 250V; Voltage Rating (DC): 450V; ComponentLink1URL: http://www.cooperindustries.com/content/dam/public/bussmann/Electronics/Resources/product-datasheets/Bus_Elx_DS_2034_PC_Tron_Series.pdf; ComponentLink1Description: http://www.cooperindustries.com/content/dam/public/bussmann/Electronics/Resources/product-datasheets/Bus_Elx_DS_2034_PC_Tron_Series.pdf; Supplier 1: Digi-Key; Supplier Part Number 1: 283-2768-ND; Case/Package: Radial; Contact Plating: Tin; Current Rating: 3A; Depth: 2.41mm; Height: 0.17inch; Housing Material: Plastic; Length: 0.3inch; Mount: Through Hole; Number of Pins: 2; Packaging: Bulk; Voltage Rating (AC): 250V; Width: 0.095inch; Supplier Packaging 1: Bulk; RoHS: Yes; Stock 1: 4171
footprint FUSE 5A 400VDC RADIAL
pins: 1, 2

## FUSE 5A 125VAC/400VDC RADIAL
designator F?, comment 5A 400VDC
FUSE BOARD MNT 5A 125VAC/400VDC; Manufacturer: Eaton; Manufacturer Part Number: BK/PCE-5-R; Fuse Type: Board Mount (Cartridge Style Excluded); Response Time: Fast; Breaking Capacity @ Rated Voltage: 10kA AC, 4.2kA DC; Approvals: CSA, UL; Supplier 1: Digi-Key; RoHS: RoHS Compliant; Category: Circuit Protection; Stock 1: 0; Pricing 1: 1=3.06, 5=2.91, 10=2.765, 50=2.2306, 100=1.8911, 250=1.8426, 500=1.55166, 1000=1.38196, 5000=1.21224 (CAD); Packaging: Bulk; Part Status: Active; Package / Case: Radial, Box; Mounting Type: Through Hole; Operating Temperature: -; Color: -; Size / Dimension: 0.300" L x 0.095" W x 0.170" H (7.62mm x 2.41mm x 4.32mm); ComponentLink1URL: http://www.cooperindustries.com/content/dam/public/bussmann/Electronics/Resources/product-datasheets/Bus_Elx_DS_2034_PC_Tron_Series.pdf; ComponentLink1Description: http://www.cooperindustries.com/content/dam/public/bussmann/Electronics/Resources/product-datasheets/Bus_Elx_DS_2034_PC_Tron_Series.pdf; Supplier Part Number 1: 283-2770-ND
footprint FUSE 5A 400VDC RADIAL
pins: 1, 2

## FUSE 12 A 600VAC/DC KLM-12
designator F?  Current Rating: 12A
FUSE CRTRDGE 12A 600VAC/VDC 5AG; Manufacturer: Eaton; Manufacturer Part Number: KLM-12; Fuse Type: Cartridge; Response Time: Fast; Approvals: CE, CSA, UL; Breaking Capacity @ Rated Voltage: 100kA AC, 50kA DC; Supplier 1: Digi-Key; RoHS: RoHS Compliant; Category: Circuit Protection; Stock 1: 0; Pricing 1: 10=39.155 (CAD); Packaging: Bulk; Part Status: Active; Applications: Electrical, Industrial; Features: -; Class: -; Operating Temperature: -; Mounting Type: Holder; Package / Case: 5AG, 10mm x 38.1mm; Size / Dimension: 0.406" Dia x 1.500" L (10.30mm x 38.10mm); ComponentLink1URL: http://www.cooperindustries.com/content/dam/public/bussmann/Electrical/Resources/product-datasheets-a/Bus_Ele_DS_2020_KLM.pdf; ComponentLink1Description: http://www.cooperindustries.com/content/dam/public/bussmann/Electrical/Resources/product-datasheets-a/Bus_Ele_DS_2020_KLM.pdf; Supplier Part Number 1: KLM-12-ND
footprint FUSE CLIPS 1A3400-09-R (FUSE CLIP CARTRIDGE 20A PCB)
pins: 1, 2

## FUSE 250MA 32VDC 0603
designator F?  Fuse Current: 250mA  Supplier Part Number 1: 478-2858-1-ND  (hidden comment: *)
Manufacturer: Kyocera AVX; Manufacturer Part Number: F0603E0R25FSTR; Voltage Rating (DC): 32V; Resistance: 650mR; Fuse Type: Board Mount (Cartridge Style Excluded); Approvals: UL; Supplier 1: Digi-Key; Stock 1: 48569; Pricing 1: 1=0.41, 5=0.394, 10=0.381, 50=0.3206, 100=0.2662, 250=0.242, 500=0.2057, 1000=0.1815 (USD); Mount: Surface Mount; Case/Package: 0603; Number of Pins: 2; Case Code (Metric): 1608; Case Code (Imperial): 0603; Contact Plating: Tin,Matte; Terminal Material: Nickel; Min Operating Temperature: -55°C; Max Operating Temperature: 125°C; Package Quantity: 1; Current Rating: 250mA; Packaging: Tape and Reel; Voltage Rating: 32V; Voltage Rating (AC): 32V; Max Voltage Rating (DC): 32V; DC Cold Resistance: 650mR; Composition: Thin Film; Length: 1.6mm; Height: 0.63mm; Width: 0.81mm; Depth: 0.81mm; Radiation Hardening: No; REACH SVHC: No SVHC; Lead Free: Lead Free; ComponentLink1URL: https://datasheet.ciiva.com/301/accug2-301328.pdf; ComponentLink1Description: https://datasheet.ciiva.com/301/accug2-301328.pdf; ComponentLink2URL: https://datasheet.ciiva.com/301/accug2-301329.pdf; ComponentLink2Description: https://datasheet.ciiva.com/301/accug2-301329.pdf; ComponentLink3URL: https://datasheet.ciiva.com/7650/accugrd-7650774.pdf; ComponentLink3Description: https://datasheet.ciiva.com/7650/accugrd-7650774.pdf; ComponentLink4URL: https://datasheet.ciiva.com/28473/1819437-28473548.pdf; ComponentLink4Description: https://datasheet.ciiva.com/28473/1819437-28473548.pdf; ComponentLink5URL: https://datasheet.ciiva.com/301/accug2-301327.pdf; ComponentLink5Description: https://datasheet.ciiva.com/301/accug2-301327.pdf
footprint RES, 0603 (Chip Resistor, 2-Leads, Body 1.60x0.80mm, IPC Medium Density)
pins: 1, 2

## FUSE 375MA 125VDC 1206
designator F?, comment 375 mA  Manufacturer Part Number: 0466.375NR  Current Rating: 375mA
FUSE BOARD MNT 375MA 125VAC/VDC; Manufacturer: Littelfuse; Body Material: Thermoplastic; Voltage Rating (DC): 125V; Resistance: 690mR; DC Cold Resistance: 350mR; Fuse Type: Board Mount (Cartridge Style Excluded); Approvals: CSA,UL; Supplier 1: Digi-Key; Stock 1: 22359; Pricing 1: 1=0.84, 5=0.812, 10=0.787, 50=0.6618, 100=0.5493, 250=0.4994, 500=0.4245, 1000=0.37455 (USD); Mount: Surface Mount; Case/Package: 1206; Number of Pins: 2; Case Code (Metric): 3216; Case Code (Imperial): 1206; Housing Material: Ceramic; Terminal Material: Copper; Min Operating Temperature: -55°C; Max Operating Temperature: 90°C; Packaging: Tape and Reel; Package Quantity: 5000; Voltage Rating: 125V; Termination: SMD/SMT; Voltage Rating (AC): 125V; Fuse Current: 375mA; Working Voltage: 125V; Length: 3.18mm; Height: 0.023inch; Width: 0.06inch; Depth: 1.52mm; Radiation Hardening: No; REACH SVHC: Unknown; Lead Free: Lead Free; ComponentLink1URL: http://www.littelfuse.com/data/en/Data_Sheets/Littelfuse_Fuse_466.pdf; ComponentLink1Description: http://www.littelfuse.com/data/en/Data_Sheets/Littelfuse_Fuse_466.pdf; ComponentLink2URL: http://www.littelfuse.com/~/media/electronics/datasheets/fuses/littelfuse_fuse_466_datasheet.pdf.pdf; ComponentLink2Description: http://www.littelfuse.com/~/media/electronics/datasheets/fuses/littelfuse_fuse_466_datasheet.pdf.pdf; ComponentLink3URL: //media.digikey.com/pdf/Data%20Sheets/Littelfuse%20PDFs/466%20Series%20Drawing.pdf; ComponentLink3Description: //media.digikey.com/pdf/Data%20Sheets/Littelfuse%20PDFs/466%20Series%20Drawing.pdf; ComponentLink4URL: http://www.farnell.com/datasheets/48294.pdf; ComponentLink4Description: http://www.farnell.com/datasheets/48294.pdf; ComponentLink5URL: https://www.verical.com/server-webapp/html/getDatasheet?partID=134212; ComponentLink5Description: https://www.verical.com/server-webapp/html/getDatasheet?partID=134212; Supplier Part Number 1: F1453CT-ND
footprint FUSE LITTLEFUSE 0466 1206
pins: 1, 2

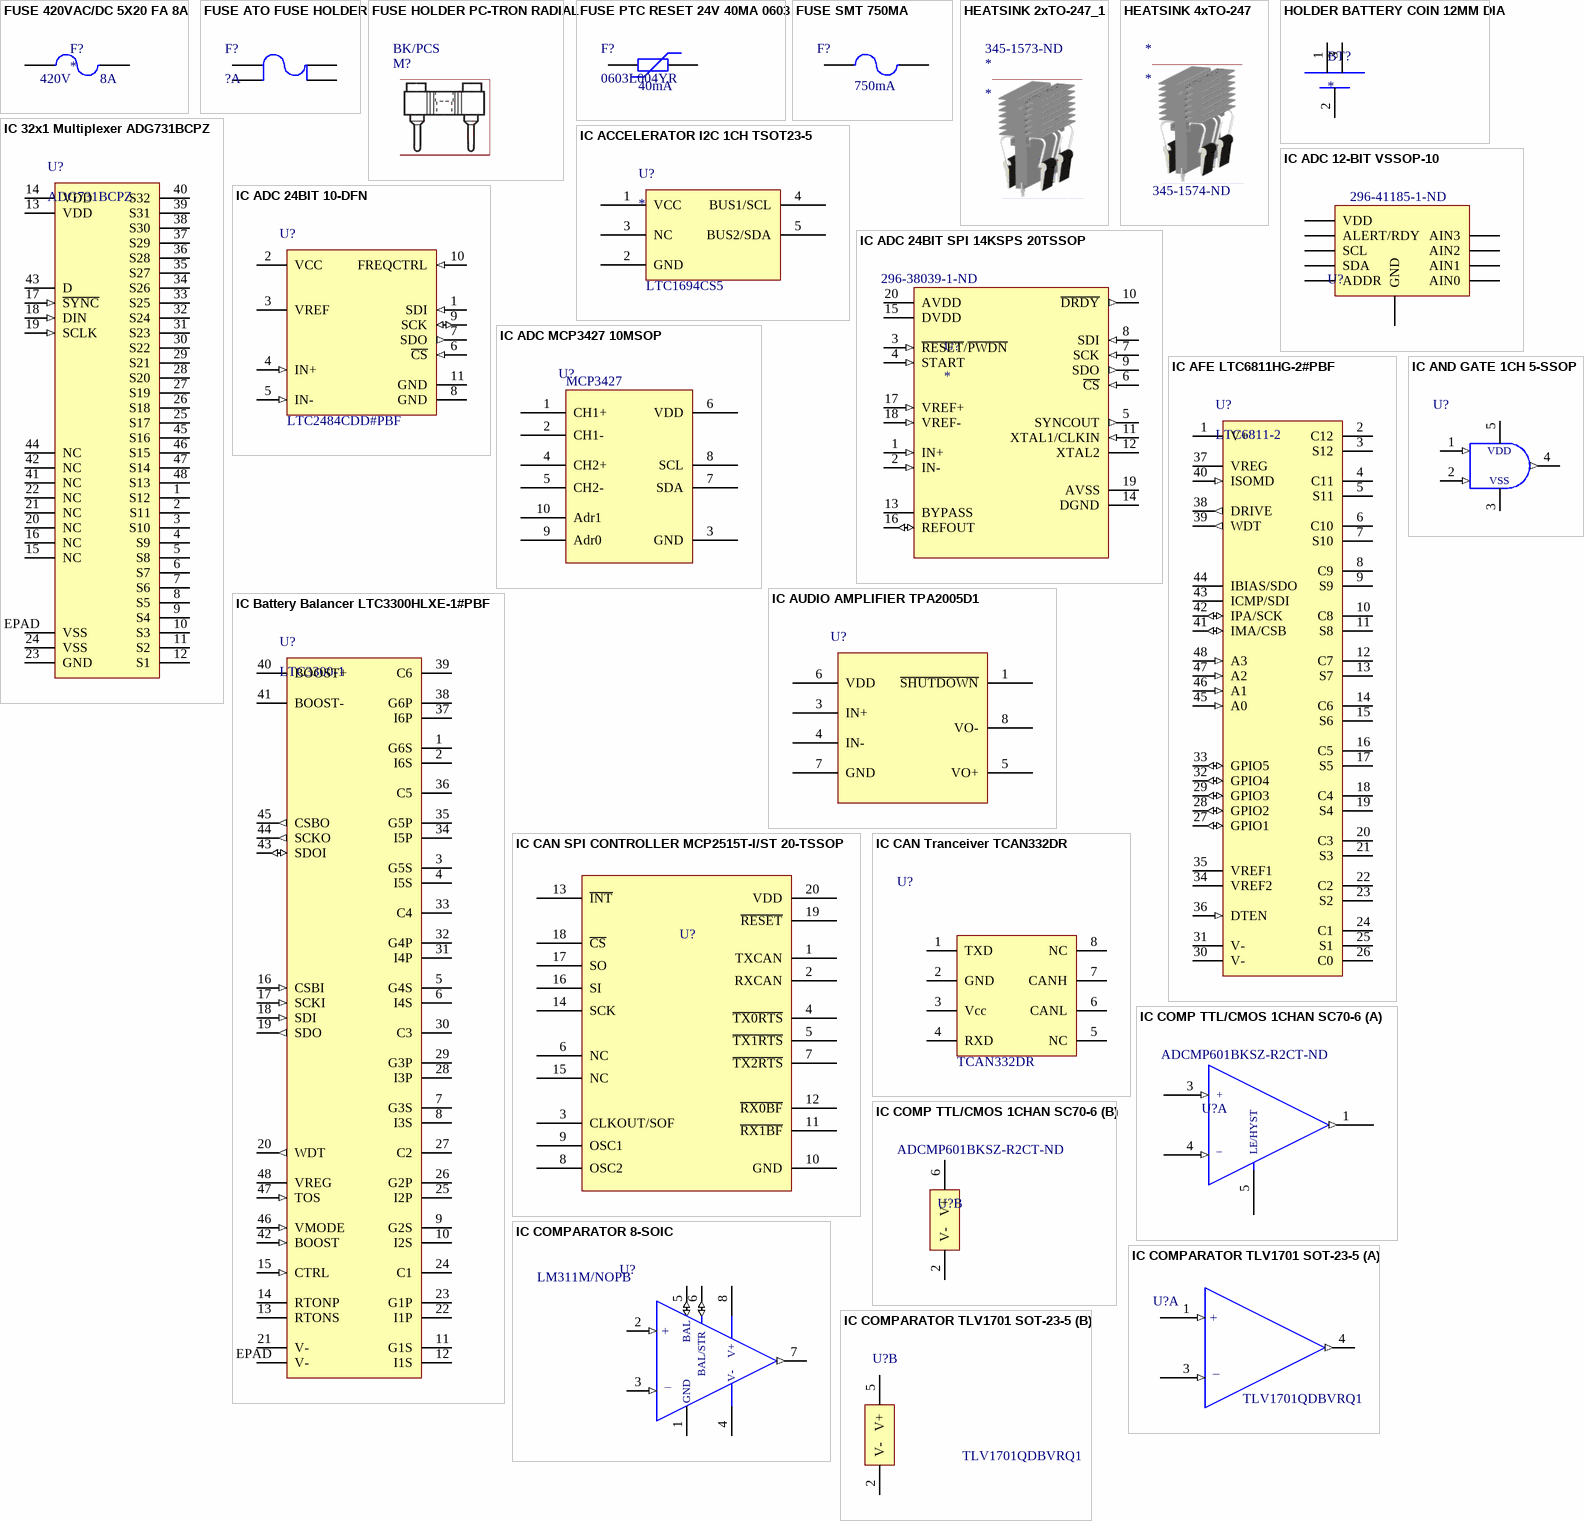
[diagram p3: symbols FUSE 420VAC/DC 5X20 FA 8A to IC COMPARATOR TLV1701 SOT-23-5]

## FUSE 420VAC/DC 5X20 FA 8A
designator F?  Current Rating (Amps): 8A  Voltage Rating - AC: 420V
8A 420V AC 420V DC Fuse Cartridge, Ceramic Holder Cartridge, Non-Standard; Manufacturer Part Number: 0487008.MXP; Manufacturer: Littelfuse Inc.; Supplier 1: Digi-Key; Supplier Part Number 1: F6659-ND; Fuse Type: Cartridge, Ceramic; Voltage Rating - DC: 420V
pins: 1, 2

## FUSE ATO FUSE HOLDER
designator F?, comment ?A
Fuse Block 30A 500V 1 Circuit Blade PCB; Manufacturer 1: Keystone Electronics; Manufacturer Part Number 1: 3557-2; Description 1: FUSE BLOCK BLADE 500V 30A PCB; For Use With/Related Products: ATC, ATO 257, MINI 897; Fuse Size: 0.43" L x 0.15" W x 0.64" H (10.92mm x 3.81mm x 16.25mm); Number of Circuits: 1; Supplier 1: Digi-Key; Supplier Part Number 1: 36-3557-2-ND; RoHS: RoHS Compliant; Category: Circuit Protection; Stock 1: 48838; Pricing 1: 1=1.66, 10=1.442, 50=1.3008, 100=1.2441, 250=1.13096, 500=1.01784, 1000=1.0126, 2500=0.84861, 5000=0.81519 (CAD); Part Status: Active; Fuseholder Type: Block; Fuse Type: Blade; Voltage: 500V; Current Rating: 30A; Mounting Type: PCB; Orientation: Vertical; Termination Style: PC Pin; Contact Material: Brass; Contact Finish: Tin Nickel; ComponentLink1URL: http://www.keyelco.com/product-pdf.cfm?p=296; ComponentLink1Description: http://www.keyelco.com/product-pdf.cfm?p=296
footprint FUSE ATO/ATC FUSE HOLDER
pins: 1, 2, 3, 4

## FUSE HOLDER PC-TRON RADIAL
designator M?  Manufacturer Part Number: BK/PCS  (hidden comment: *)  (mechanical)
Fuse Holder 1 Circuit Radial PCB; Manufacturer: Eaton; Number of Circuits: 1; Supplier 1: Digi-Key; Supplier Part Number 1: 283-2356-ND; RoHS: Yes; Stock 1: 7906; Pricing 1: 1 = 1.54000, 5 = 1.49400, 10 = 1.39800, 50 = 1.15680, 100 = 0.96400, 250 = 0.93992, 500 = 0.79530, 1000 = 0.69890, 5000 = 0.62660 (USD); Mount: PCB; Case/Package: Radial; Termination: PC Pin; Orientation: Vertical

## FUSE PTC RESET 24V 40MA 0603
designator F?, comment 0603L004YR  Hold Current: 40mA
Polymeric PTC Resettable Fuse 24V 40mA Ih Surface Mount 0603 (1608 Metric), Concave; Manufacturer 1: Littelfuse; Description 1: PTC 24V POLYFUSE SMT 0603 .035A; Max Current Rating: 20A; Power Dissipation: 500mW; Trip Current: 120mA; Time to Trip: 1s; Approvals: cULus,TUV; Supplier 1: Digi-Key; Supplier Part Number 1: F6263CT-ND; Manufacturer Part Number 1: 0603L004YR; Stock 1: 21365; Pricing 1: 1=2.61, 5=2.488, 10=2.363, 50=1.9068, 100=1.6166, 250=1.5751, 500=1.3264, 1000=1.1813 (USD); Case/Package: 0603; Case Code (Metric): 1608; Case Code (Imperial): 0603; Min Operating Temperature: -40°C; Max Operating Temperature: 85°C; Packaging: Tape and Reel; Package Quantity: 4000; Max Voltage Rating (DC): 24V; ComponentLink1URL: https://datasheet.ciiva.com/29603/littelfuse-ptc-0603l-29603319.pdf; ComponentLink1Description: https://datasheet.ciiva.com/29603/littelfuse-ptc-0603l-29603319.pdf
footprint RES, 0603 (Chip Resistor, 2-Leads, Body 1.60x0.80mm, IPC Medium Density)
pins: 1, 2

## FUSE SMT 750MA
designator F?  Current Rating: 750mA
Board Mount Fuse 750MA 32VAC 63VDC; Manufacturer 1: Bel Fuse Inc.; Manufacturer Part Number 1: C2Q 750; Fuse Type: Board Mount (Cartridge Style Excluded); Response Time: Fast; Breaking Capacity @ Rated Voltage: 35A AC, 50A DC; Approvals: CE, cULus; Supplier 1: Digi-Key; Supplier Part Number 1: 507-1090-1-ND; Packaging: Cut Tape (CT); Part Status: Active; Package / Case: 0603 (1608 Metric); Mounting Type: Surface Mount; Operating Temperature: -55°C ~ 125°C; Color: -; Size / Dimension: 0.063" L x 0.032" W x 0.019" H (1.60mm x 0.82mm x 0.48mm); ComponentLink1URL: https://belfuse.com/resources/StewartConnector/C2Q.pdf; ComponentLink1Description: https://belfuse.com/resources/StewartConnector/C2Q.pdf
footprint RES, 0603 (Chip Resistor, 2-Leads, Body 1.60x0.80mm, IPC Medium Density)
pins: 1, 2